# Altium footprint library Rez_Cap.PcbLib: 21 footprints (part 2 of 2)
Each footprint in its own frame and in the unit in brackets; x right, y up, seen from the top. Pads: shape width x height; smd on the part's side, far side on the other; paste and mask are expansions set on the pad; w line width, h text height; cw(c..) or ccw(c..) is an arc to the next point about the centre after c.
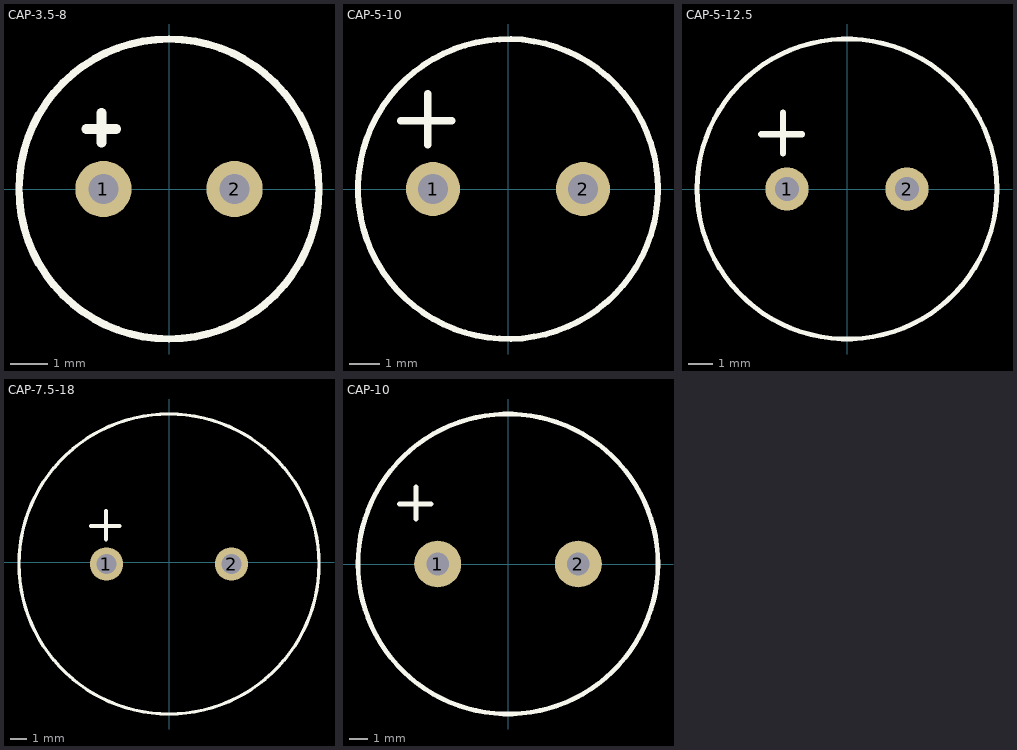
[diagram p1: the footprints below, top view; thin cyan lines are the x and y axes]

## CAP-3.5-8 [mm]
pads (2):
  round 1.5 hole 0.8 unplated: 1(-1.75,0) 2(1.75,0)
Top Overlay:
  circle w0.2: c0,0 r4
  lines w0.254: -2.208,1.6 -1.408,1.6 ; -1.8,1.239 -1.8,2.039

## CAP-5-10 [mm]
pads (2):
  round 1.8 hole 1 unplated: 1(-2.5,0) 2(2.5,0)
Top Overlay:
  circle w0.2: c0,0 r5
  lines w0.254: -3.574,2.281 -1.874,2.281 ; -2.674,1.481 -2.674,3.181

## CAP-5-12.5 [mm]
pads (2):
  round 1.8 hole 1 unplated: 1(-2.5,0) 2(2.5,0)
Top Overlay:
  circle w0.2: c0,0 r6.25
  lines w0.254: -3.574,2.281 -1.874,2.281 ; -2.674,1.481 -2.674,3.181

## CAP-7.5-18 [mm]
pads (2):
  round 2 hole 1.2 unplated: 1(-3.75,-0.1) 2(3.75,-0.1)
Top Overlay:
  circle w0.2: c0,-0.1 r9
  lines w0.254: -4.674,2.181 -2.974,2.181 ; -3.774,1.381 -3.774,3.081

## CAP-10 [mm]
pads (2):
  round 2.5 hole 1.2: 1(-3.75,0) 2(3.75,0)
Top Overlay:
  circle w0.254: c0,0 r8
  lines w0.254: -5.8,3.2 -4.1,3.2 ; -4.9,2.4 -4.9,4.1